# Altium footprint library Alcetronics_EM.PcbLib: 63 footprints (part 2 of 4)
Each footprint in its own frame and in the unit in brackets; x right, y up, seen from the top. Pads: shape width x height; smd on the part's side, far side on the other; paste and mask are expansions set on the pad; w line width, h text height; cw(c..) or ccw(c..) is an arc to the next point about the centre after c.
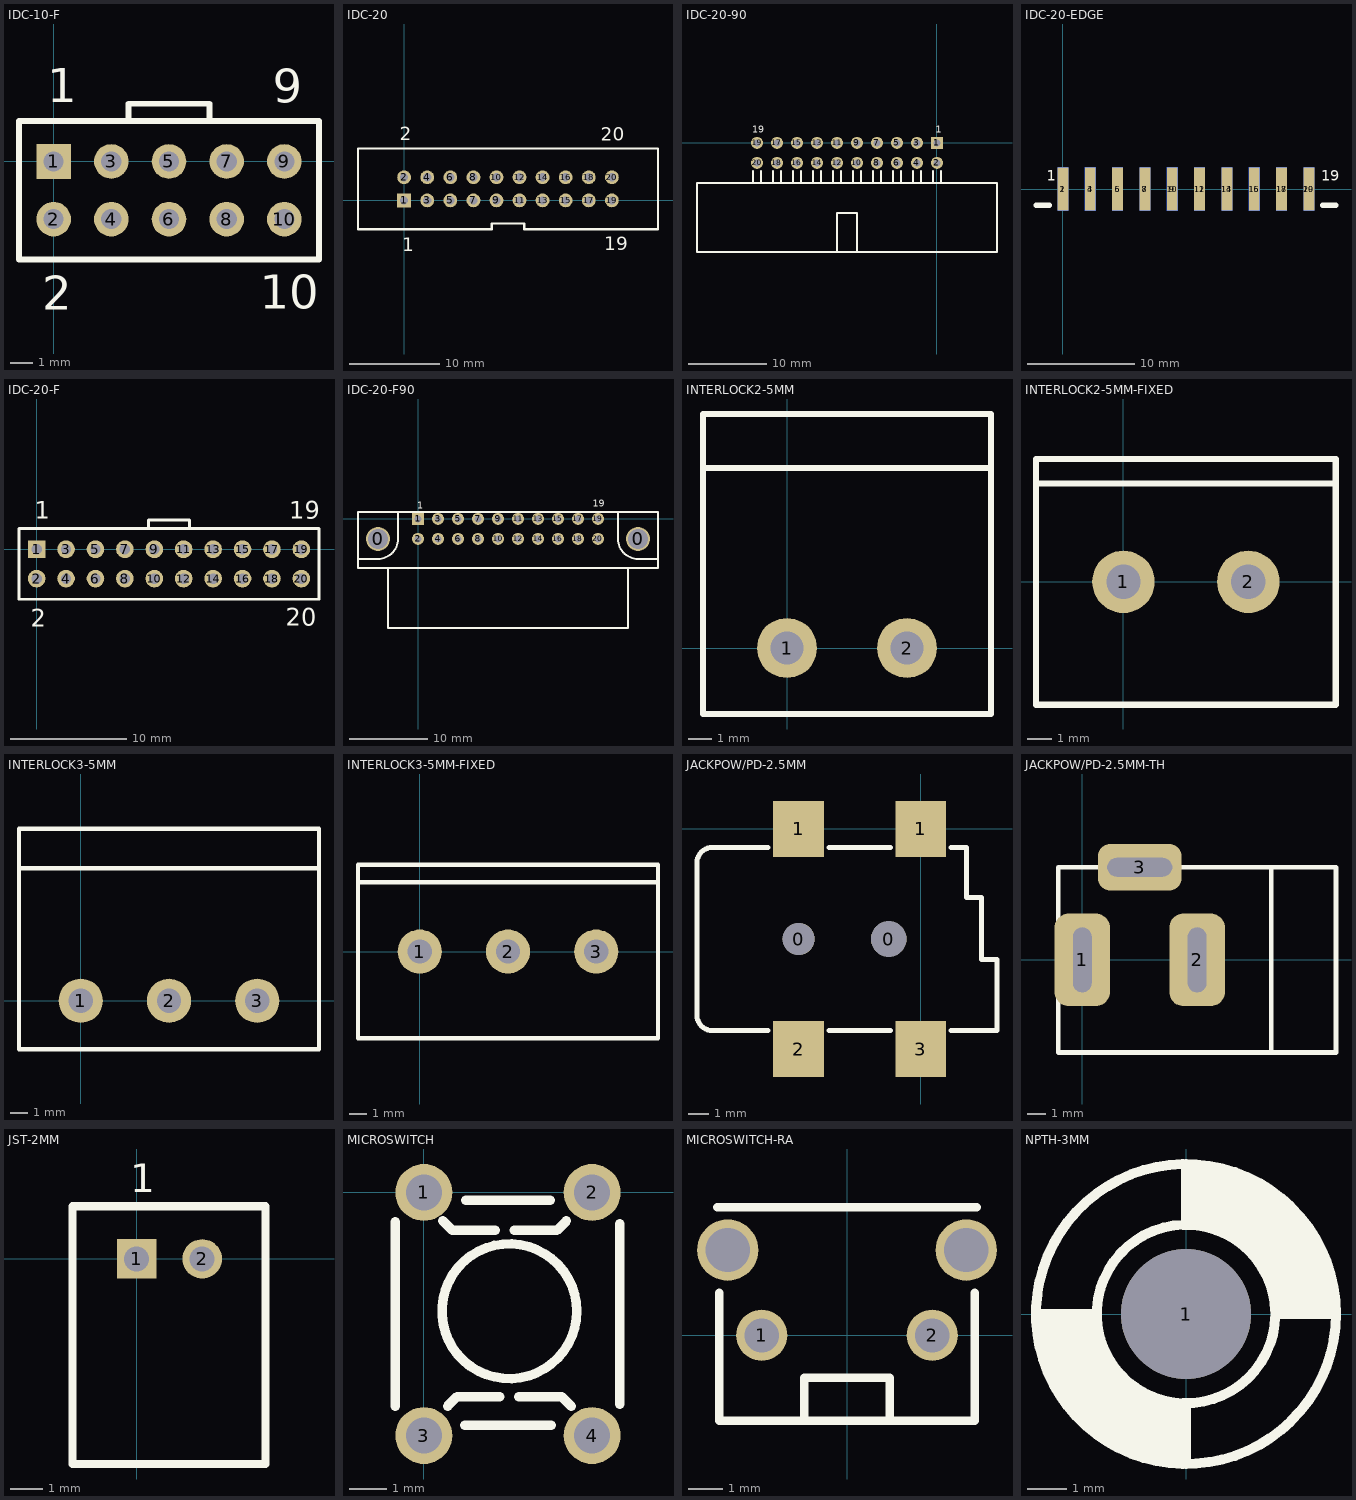
[diagram p1: the footprints below, top view; thin cyan lines are the x and y axes]

## IDC-10-F [mil]
height 425
pads (10):
  rect 60x60 hole 35: 1(0,0)
  round 60 hole 35: 2(0,-100) 3(100,0) 4(100,-100) 5(200,0) 6(200,-100) 7(300,0) 8(300,-100) 9(400,0) 10(400,-100)
Top Overlay:
  lines w10: 130,70 130,100 270,100 270,70 ; -60,-170 460,-170 460,70 -60,70 -60,-170
  text "9" at 379.92,101.38 h59.06
  text "1" at -10.83,102.36 h59.06
  text "2" at -19.68,-256.89 h59.06
  text "10" at 357.28,-254.92 h59.06
Bottom Overlay:
  circle w10: c200,0 r50
  circle w10: c400,-100 r50

## IDC-20 [mil]
pads (20):
  rect 60x60 hole 35: 1(0,0)
  round 60 hole 35: 2(0,100) 3(100,0) 4(100,100) 5(200,0) 6(200,100) 7(300,0) 8(300,100) 9(400,0) 10(400,100) 11(500,0) 12(500,100) 13(600,0) 14(600,100) 15(700,0) 16(700,100) 17(800,0) 18(800,100) 19(900,0) 20(900,100)
Top Overlay:
  lines w10: -200,-125 -200,225 1100,225 1100,-125 520,-125 520,-100 380,-100 380,-125 -200,-125
  text "1" at -8.86,-220.47 h59.06
  text "2" at -18.7,259.84 h59.06
  text "20" at 852.36,258.86 h59.06
  text "19" at 867.13,-216.54 h59.06
Bottom Overlay:
  circle w10: c200,0 r50
  circle w10: c400,100 r50
  circle w10: c700,0 r50
  circle w10: c900,100 r50

## IDC-20-90 [mil]
pads (20):
  rect 60x60 hole 35: 1(0,0)
  round 60 hole 35: 2(0,-100) 3(-100,0) 4(-100,-100) 5(-200,0) 6(-200,-100) 7(-300,0) 8(-300,-100) 9(-400,0) 10(-400,-100) 11(-500,0) 12(-500,-100) 13(-600,0) 14(-600,-100) 15(-700,0) 16(-700,-100) 17(-800,0) 18(-800,-100) 19(-900,0) 20(-900,-100)
Top Overlay:
  lines w10: -920,-200 -920,-140 ; -880,-200 -880,-140 ; -820,-200 -820,-140 ; -780,-200 -780,-140 ; -720,-200 -720,-140 ; -680,-200 -680,-140 ; -620,-200 -620,-140 ; -580,-200 -580,-140 ; -520,-200 -520,-140 ; -500,-545 -500,-350 -400,-350 -400,-545 ; -480,-200 -480,-140 ; -420,-200 -420,-140 ; -380,-200 -380,-140 ; -320,-200 -320,-140 ; -280,-200 -280,-140 ; -220,-200 -220,-140 ; -180,-200 -180,-140 ; -120,-200 -120,-140 ; -80,-200 -80,-140 ; -20,-200 -20,-140 ; 20,-200 20,-140 ; -1200,-545 300,-545 300,-200 -1200,-200 -1200,-545
  text "1" at -5,50 h34
  text "19" at -925,50 h34
Bottom Overlay:
  circle w10: c-900,-100 r50
  circle w10: c-700,0 r50
  circle w10: c-400,-100 r50
  circle w10: c-200,0 r50

## IDC-20-EDGE [mm] "IDC-20 STRAIGHT PCB EDGE"
pads (20):
  rect 1x4 smd: 1(0,0) 3(2.54,0) 5(5.08,0) 7(7.62,0) 9(10.16,0) 11(12.7,0) 13(15.24,0) 15(17.78,0) 17(20.32,0) 19(22.86,0)
  rect 1x4 smd far side: 2(0,0) 4(2.54,0) 6(5.08,0) 8(7.62,0) 10(10.16,0) 12(12.7,0) 14(15.24,0) 16(17.78,0) 18(20.32,0) 20(22.86,0)
Top Overlay:
  lines w0.5: -2.5,-1.5 -1.25,-1.5 ; 24.125,-1.5 25.375,-1.5
  text "19" at 24,0.75 h1
  text "1" at -1.5,0.75 h1
Bottom Overlay:
  text "2" at -1,0.75 h1
  text "20" at 25.75,0.75 h1

## IDC-20-F [mil]
height 425
pads (20):
  rect 60x60 hole 35: 1(0,0)
  round 60 hole 35: 2(0,-100) 3(100,0) 4(100,-100) 5(200,0) 6(200,-100) 7(300,0) 8(300,-100) 9(400,0) 10(400,-100) 11(500,0) 12(500,-100) 13(600,0) 14(600,-100) 15(700,0) 16(700,-100) 17(800,0) 18(800,-100) 19(900,0) 20(900,-100)
Top Overlay:
  lines w10: 380,70 380,100 520,100 520,70 ; -60,-170 -60,70 960,70 960,-170 -60,-170
  text "20" at 847.44,-259.84 h59.06
  text "2" at -20.67,-262.8 h59.06
  text "1" at -5.91,103.35 h59.06
  text "19" at 858.27,103.35 h59.06
Bottom Overlay:
  circle w10: c900,-100 r50
  circle w10: c700,0 r50
  circle w10: c400,-100 r50
  circle w10: c200,0 r50

## IDC-20-F90 [mil]
pads (22):
  round 120 hole 100: 0(-200,-100) 0(1100,-100)
  rect 60x60 hole 35: 1(0,0)
  round 60 hole 35: 2(0,-100) 3(100,0) 4(100,-100) 5(200,0) 6(200,-100) 7(300,0) 8(300,-100) 9(400,0) 10(400,-100) 11(500,0) 12(500,-100) 13(600,0) 14(600,-100) 15(700,0) 16(700,-100) 17(800,0) 18(800,-100) 19(900,0) 20(900,-100)
Top Overlay:
  lines w10: -300,-200 -200,-200 ccw(c-200,-100) -100,-100 -100,35 ; -150,-245 -150,-545 1050,-545 1050,-245 ; 1000,35 1000,-100 ccw(c1100,-100) 1100,-200 1200,-200 ; -300,-245 -300,35 1200,35 1200,-245 -300,-245
  text "1" at -5,50 h34
  text "19" at 875,60 h34
Bottom Overlay:
  circle w10: c900,-100 r50
  circle w10: c700,0 r50
  circle w10: c400,-100 r50
  circle w10: c200,0 r50

## INTERLOCK2-5MM [mil]
pads (2):
  round 100 hole 55: 1(0,0) 2(200,0)
Top Overlay:
  lines w10: -140,300 340,300 ; -140,-110 340,-110 340,390 -140,390 -140,-110

## INTERLOCK2-5MM-FIXED [mil]
pads (2):
  round 100 hole 55: 1(0,0) 2(200,0)
Top Overlay:
  lines w10: -140,195.87 -140,-196.85 340,-196.85 340,196.85 -140,196.85 ; -139.76,157.48 340.24,157.48

## INTERLOCK3-5MM [mil]
pads (3):
  round 100 hole 55: 1(0,0) 2(200,0) 3(400,0)
Top Overlay:
  lines w10: -140,300 540,300 ; -140,-110 540,-110 540,390 -140,390 -140,-110

## INTERLOCK3-5MM-FIXED [mil]
pads (3):
  round 100 hole 55: 1(0,0) 2(200,0) 3(400,0)
Top Overlay:
  lines w10: -140,195.87 -140,-196.85 540,-196.85 540,196.85 -140,196.85 ; -139.76,157.48 540,157.48

## JACKPOW/PD-2.5MM [mil] "Power Jack SMD 2.5MM with plug detect"
height 590.55
pads (6):
  round 63 hole 63 unplated: 0(-240.16,-216.54)
  round 70 hole 70 unplated: 0(-62.99,-216.54)
  rect 100x110 smd: 1(-240.16,0) 1(0,0) 2(-240.16,-433.07) 3(0,-433.07)
Top Overlay:
  lines w10: -300.08,-396.54 -410.08,-396.54 cw(c-410.08,-366.54) -440.08,-366.54 -440.08,-66.54 cw(c-410.08,-66.54) -410.08,-36.54 -300.08,-36.54 ; -180.08,-396.54 -60.08,-396.54 ; -180.08,-36.54 -60.08,-36.54 ; 59.92,-396.54 149.92,-396.54 149.92,-256.54 119.84,-256.54 119.84,-135 89.92,-135 89.92,-36.54 59.92,-36.54

## JACKPOW/PD-2.5MM-TH [mm] "Jack Power 2.5mm with insertion detect - Through Hole"
height 11
pads (3):
  rrect50% 3x5 hole 1 slot 3.5 at 90 deg: 1(0,0) 2(6.2,0)
  rrect50% 4.5x2.5 hole 1 slot 3.5 at 0 deg: 3(3.1,5)
Top Overlay:
  lines w0.254: 10.2,-5 10.2,5 ; -1.3,-5 13.7,-5 13.7,5 -1.3,5 -1.3,-5

## JST-2MM [mm] "JST 2mm header side entry"
pads (2):
  rect 1.2x1.2 hole 0.762: 1(0,0)
  round 1.2 hole 0.762: 2(2,0)
Top Overlay:
  lines w0.254: -1.95,-6.25 -1.95,1.6 3.925,1.6 3.925,-6.25 -1.95,-6.25
  text "1" at -0.2,2.025 h0.86

## MICROSWITCH [mil]
pads (4):
  round 60 hole 38: 1(0,0) 2(177.16,0) 3(0,-255.91) 4(177.16,-255.91)
Top Overlay:
  circle w10: c90,-125 r71
  lines w10: -30,-225 -30,-31 ; 20,-30 30,-40 75,-40 ; 25,-225 35,-215 80,-215 ; 43,-245 134,-245 ; 44,-8 133,-8 ; 95,-40 140,-40 150,-30 ; 100,-215 145,-215 155,-225 ; 206,-223 206,-33

## MICROSWITCH-RA [mm] "Right Angle Switch"
height 4.3
pads (4):
  round 1.5 hole 1: 1(-2.5,0) 2(2.5,0)
  round 1.8 hole 1.3: ""(-3.5,2.5) ""(3.5,2.5)
Top Overlay:
  lines w0.25: -3.8,3.75 3.8,3.75 ; -3.75,1.25 -3.75,-2.5 3.75,-2.5 3.75,1.25 ; -1.25,-2.5 -1.25,-1.25 1,-1.25 1.25,-1.25 1.25,-2.5

## NPTH-3MM [mil]
pads (1):
  round 130 hole 130 unplated: 1(0,0)
Top Overlay:
  circle w10: c0,0 r150
  circle w10: c0,0 r89.27
  lines w8: -148.89,-1 -95.6,-1 ; -148.2,-7 -93.18,-7 ; -147.52,-13 -90.76,-13 ; -146.84,-19 -88.34,-19 ; -146.16,-25 -85.92,-25 ; -145.48,-31 -83.5,-31 ; -145,-35.2 -145,0 ; -144.8,-37 -81.08,-37 ; -144.11,-43 -78.66,-43 ; -140.31,-49 -76.24,-49 ; -139,-50.78 -139,0 ; -135.89,-55 -73.82,-55 ; -133,-58.92 -133,0 ; -131.46,-61 -71.4,-61 ; -127.04,-67 -62.21,-67 ; -127,-67.05 -127,0 ; -122.61,-73 -51.67,-73 ; -121,-75.19 -121,0 ; -118.19,-79 -41.12,-79 ; -115,-83.32 -115,0 ; -113.76,-85 -30.58,-85 ; -109.34,-91 -20.03,-91 ; -109,-91.46 -109,0 ; -104.91,-97 -6,-97 ; -103,-99.59 -103,0 ; -100.49,-103 -6,-103 ; -97,-107.73 -97,0 ; -96.06,-109 -6,-109 ; -91.64,-115 -6,-115 ; -91,-115.86 -91,-12.4 ; -87.21,-121 -6,-121 ; -85,-27.28 -85,-124 ; -79,-125.67 -79,-42.16 ; -74.23,-127 -6,-127 ; -73,-127.34 -73,-57.04 ; -67,-129.01 -67,-64.28 ; -61,-130.68 -61,-67.69 ; -55,-132.35 -55,-71.1 ; -52.68,-133 -6,-133 ; -49,-134.03 -49,-74.52 ; -43,-135.7 -43,-77.93 ; -37,-137.37 -37,-81.34 ; -31.14,-139 -6,-139 ; -31,-139.04 -31,-84.76 ; -25,-140.71 -25,-88.17 ; -19,-142.38 -19,-91.59 ; -13,-144.05 -13,-95 ; -9.59,-145 -6,-145 ; -7,-145.72 -7,-95 ; 0,95 113.96,95 ; 0,101 104.91,101 ; 0,107 95.85,107 ; 0,113 86.8,113 ; 0,119 77.75,119 ; 0,125 68.69,125 ; 0,131 59.64,131 ; 0,137 50.58,137 ; 0,143 41.53,143 ; 0,149 9.25,149 ; 5,89.17 5,149.46 ; 6,89 120.62,89 ; 11,88.17 11,148.81 ; 17,87.17 17,148.16 ; 23,86.17 23,147.51 ; 29,85.17 29,146.86 ; 35,84.17 35,146.22 ; 41,83.17 41,143.35 ; 47,78.12 47,139.37 ; 48.15,77 124.34,77 ; 53,72.26 53,135.4 ; 54.29,71 126.21,71 ; 59,66.4 59,131.42 ; 60.44,65 128.07,65 ; 65,60.55 65,127.45 ; 66.59,59 129.93,59 ; 71,54.69 71,123.47 ; 72.73,53 131.79,53 ; 77,48.83 77,119.49 ; 78.88,47 133.66,47 ; 83,42.98 83,115.52 ; 84.18,41 135.52,41 ; 85.23,35 137.38,35 ; 86.28,29 139.24,29 ; 87.33,23 141.1,23 ; 88.38,17 142.97,17 ; 89,13.43 89,111.54 ; 89.43,11 144.83,11 ; 90.48,5 146.69,5 ; 95,2.14 95,107.57 ; 101,2.36 101,103.59 ; 107,2.57 107,99.61 ; 113,2.79 113,95.64 ; 119,3 119,91.66 ; 122.48,83 42,83 ; 125,3.21 125,74.89 ; 131,3.43 131,55.56 ; 137,3.64 137,36.22 ; 143,3.86 143,16.89 ; -85,-124 -144,-44 -149,0 -96,0 -71,-62 -13,-95 ; -85,-124 -6,-146 -6,-95 -13,-95 ; 42,83 0,90 0,150 37,146 120,91 147,4 91,2 84,42 42,83
  lines w10: -150,0 -90,0 ; 0,-150 0,-90 ; 0,90 0,150 ; 89.28,0 149,0
Bottom Overlay:
  circle w10: c0,0 r89.27
  circle w10: c0,0 r150
  lines w8: -148.89,-1 -95.6,-1 ; -148.2,-7 -93.18,-7 ; -147.52,-13 -90.76,-13 ; -146.84,-19 -88.34,-19 ; -146.16,-25 -85.92,-25 ; -145.48,-31 -83.5,-31 ; -145,-35.2 -145,0 ; -144.8,-37 -81.08,-37 ; -144.11,-43 -78.66,-43 ; -140.31,-49 -76.24,-49 ; -139,-50.78 -139,0 ; -135.89,-55 -73.82,-55 ; -133,-58.92 -133,0 ; -131.46,-61 -71.4,-61 ; -127.04,-67 -62.21,-67 ; -127,-67.05 -127,0 ; -122.61,-73 -51.67,-73 ; -121,-75.19 -121,0 ; -118.19,-79 -41.12,-79 ; -115,-83.32 -115,0 ; -113.76,-85 -30.58,-85 ; -109.34,-91 -20.03,-91 ; -109,-91.46 -109,0 ; -104.91,-97 -6,-97 ; -103,-99.59 -103,0 ; -100.49,-103 -6,-103 ; -97,-107.73 -97,0 ; -96.06,-109 -6,-109 ; -91.64,-115 -6,-115 ; -91,-115.86 -91,-12.4 ; -87.21,-121 -6,-121 ; -85,-27.28 -85,-124 ; -79,-125.67 -79,-42.16 ; -74.23,-127 -6,-127 ; -73,-127.34 -73,-57.04 ; -67,-129.01 -67,-64.28 ; -61,-130.68 -61,-67.69 ; -55,-132.35 -55,-71.1 ; -52.68,-133 -6,-133 ; -49,-134.03 -49,-74.52 ; -43,-135.7 -43,-77.93 ; -37,-137.37 -37,-81.34 ; -31.14,-139 -6,-139 ; -31,-139.04 -31,-84.76 ; -25,-140.71 -25,-88.17 ; -19,-142.38 -19,-91.59 ; -13,-144.05 -13,-95 ; -9.59,-145 -6,-145 ; -7,-145.72 -7,-95 ; 0,95 113.96,95 ; 0,101 104.91,101 ; 0,107 95.85,107 ; 0,113 86.8,113 ; 0,119 77.75,119 ; 0,125 68.69,125 ; 0,131 59.64,131 ; 0,137 50.58,137 ; 0,143 41.53,143 ; 0,149 9.25,149 ; 5,89.17 5,149.46 ; 6,89 120.62,89 ; 11,88.17 11,148.81 ; 17,87.17 17,148.16 ; 23,86.17 23,147.51 ; 29,85.17 29,146.86 ; 35,84.17 35,146.22 ; 41,83.17 41,143.35 ; 47,78.12 47,139.37 ; 48.15,77 124.34,77 ; 53,72.26 53,135.4 ; 54.29,71 126.21,71 ; 59,66.4 59,131.42 ; 60.44,65 128.07,65 ; 65,60.55 65,127.45 ; 66.59,59 129.93,59 ; 71,54.69 71,123.47 ; 72.73,53 131.79,53 ; 77,48.83 77,119.49 ; 78.88,47 133.66,47 ; 83,42.98 83,115.52 ; 84.17,41 135.52,41 ; 85.22,35 137.38,35 ; 86.27,29 139.24,29 ; 87.33,23 141.1,23 ; 88.38,17 142.97,17 ; 89,13.43 89,111.54 ; 89.42,11 144.83,11 ; 90.47,5 146.69,5 ; 95,2.14 95,107.57 ; 101,2.36 101,103.59 ; 107,2.57 107,99.61 ; 113,2.79 113,95.64 ; 119,3 119,91.66 ; 122.48,83 42,83 ; 125,3.21 125,74.89 ; 131,3.43 131,55.56 ; 137,3.64 137,36.22 ; 143,3.86 143,16.89 ; -85,-124 -144,-44 -149,0 -96,0 -71,-62 -13,-95 ; -85,-124 -6,-146 -6,-95 -13,-95 ; 42,83 0,90 0,150 37,146 120,91 147,4 91,2 84,42 42,83
  lines w10: -150,0 -90,0 ; 0,-150 0,-90 ; 0,90 0,150 ; 89.28,0 149,0